# EAGLE library part SIP-14_ (library quadparts_prebuilt_2022)
Single inline pin header, 14 pins, 1 row
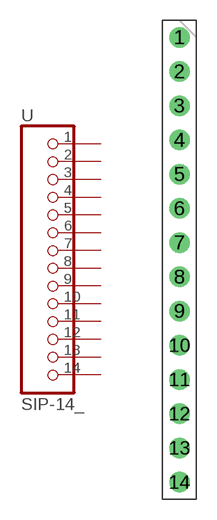
[diagram p6: symbol with the pads of HDRV14W63P254_14X1; footprint HDRV14W63P254_14X1]

Designator prefix -

## SIP-14_ (CREATOR: Josiah Wong; DIST: Digikey; DISTPN: 609-5506-ND; MANU: Amphenol FCI)  [HDRV14W63P254_14X1]
1  1  pas
2  2  pas
3  3  pas
4  4  pas
5  5  pas
6  6  pas
7  7  pas
8  8  pas
9  9  pas
10  10  pas
11  11  pas
12  12  pas
13  13  pas
14  14  pas

## Footprint HDRV14W63P254_14X1 (pad centres in mm)
drill 1.016: 1 0,33.02; 2 0,30.48; 3 0,27.94; 4 0,25.4; 5 0,22.86; 6 0,20.32; 7 0,17.78; 8 0,15.24; 9 0,12.7; 10 0,10.16; 11 0,7.62; 12 0,5.08; 13 0,2.54; 14 0,0